# EAGLE library part SAMACSYS_PARTS_TPS560430X3FDBVR (library Node)
SIMPLE SWITCHER 36-V, 600-mA Buck Regulator With High-Efficiency Sleep Mode Source: Datasheet <http://www.ti.com/lit/gpn/tps560430>
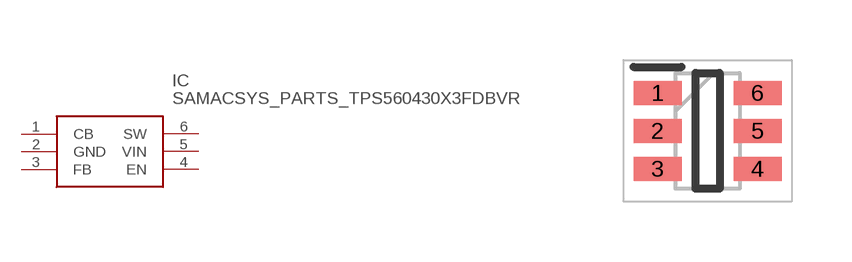
[diagram p3: symbol with the pads of SAMACSYS_PARTS_SOT95P280X145-6N; footprint SAMACSYS_PARTS_SOT95P280X145-6N]

Designator prefix IC

## SAMACSYS_PARTS_TPS560430X3FDBVR (DESCRIPTION: SIMPLE SWITCHER 36-V, 600-mA Buck Regulator With High-Efficiency Sleep Mode; HEIGHT: 1.45mm; MANUFACTURER_NAME: Texas Instruments; MANUFACTURER_PART_NUMBER: TPS560430X3FDBVR; MOUSER_PART_NUMBER: 595-TPS560430X3FDBVR; MOUSER_PRICE-STOCK: https://www.mouser.co.uk/ProductDetail/Texas-Instruments/TPS560430X3FDBVR/?qs=y6ZabgHbY%252Bzg1UxrVv3WVw%3D%3D)  [SAMACSYS_PARTS_SOT95P280X145-6N]
1  CB
2  GND
3  FB
4  EN
5  VIN
6  SW

## Footprint SAMACSYS_PARTS_SOT95P280X145-6N (pad centres in mm)
TPS560430X3FDBVR-1
smd 1.2 x 0.6: 1 -1.25,0.95; 2 -1.25,0; 3 -1.25,-0.95; 4 1.25,-0.95; 5 1.25,0; 6 1.25,0.95